# Altium footprint library IRFI4019HG.PcbLib: 1 footprints
Each footprint in its own frame and in the unit in brackets; x right, y up, seen from the top. Pads: shape width x height; smd on the part's side, far side on the other; paste and mask are expansions set on the pad; w line width, h text height; cw(c..) or ccw(c..) is an arc to the next point about the centre after c.
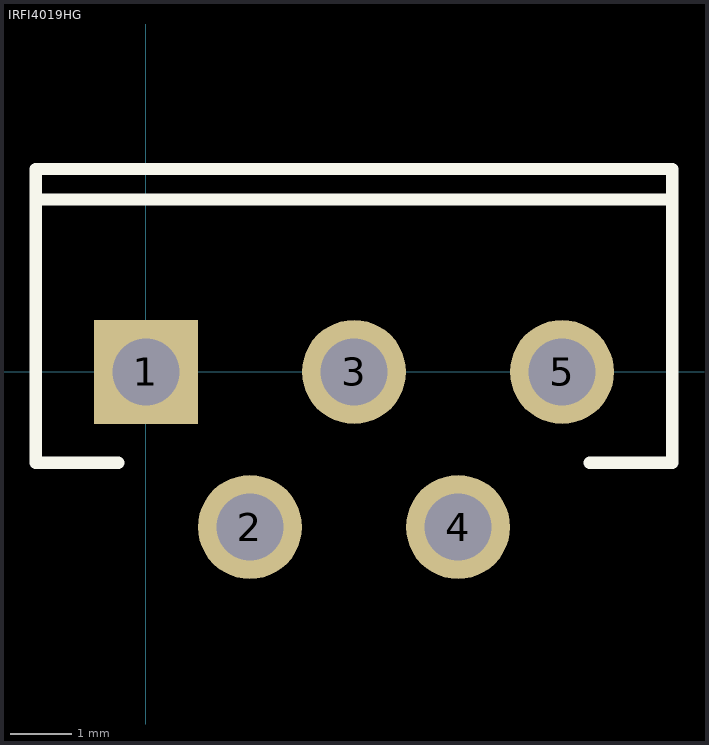
[diagram p0: the footprint, top view; thin cyan lines are the x and y axes]

## IRFI4019HG [mm]
pads (5):
  rect 1.7x1.7 hole 1.1: 1(0,0)
  round 1.7 hole 1.1: 2(1.7,-2.535) 3(3.4,0) 4(5.1,-2.535) 5(6.8,0)
Top Overlay:
  lines w0.2: -1.8,2.817 8.6,2.817 ; -0.454,-1.483 -1.8,-1.483 -1.8,3.317 8.6,3.317 8.6,-1.483 7.254,-1.483